# Altium schematic symbol library CAP-V.SchLib: 1 symbol
Pins are listed as number, name and electrical type; pins without a type are passive.

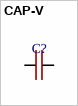
[diagram p0: symbol CAP-V]

## CAP-V
designator C?
footprint CAP-V
pins: 1, 2